# EAGLE library part TEMPLATE_FEATHER_MISC (library voltera_community_lib)
Feather Template (Compatible with Argon)
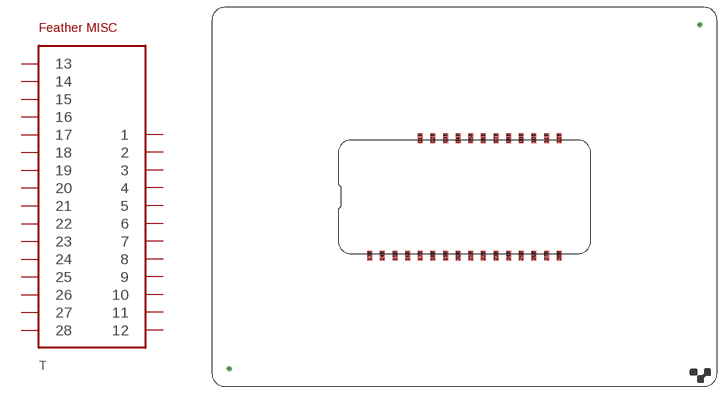
[diagram p10: symbol with the pads of FEATHER; footprint FEATHER]

Designator prefix T

## TEMPLATE_FEATHER_MISC  [FEATHER]
01B  1
01T  1
02B  2
02T  2
03B  3
03T  3
04B  4
04T  4
05B  5
05T  5
06B  6
06T  6
07B  7
07T  7
08B  8
08T  8
09B  9
09T  9
10B  10
10T  10
11B  11
11T  11
12B  12
12T  12
13B  13
13T  13
14B  14
14T  14
15B  15
15T  15
16B  16
16T  16
17B  17
17T  17
18B  18
18T  18
19B  19
19T  19
20B  20
20T  20
21B  21
21T  21
22B  22
22T  22
23B  23
23T  23
24B  24
24T  24
25B  25
25T  25
26B  26
26T  26
27B  27
27T  27
28B  28
28T  28

## Footprint FEATHER (pad centres in mm)
smd 1.016 x 2.032 bottom: 01B 41.91,49.93; 02B 44.45,49.93; 03B 46.99,49.93; 04B 49.53,49.93; 05B 52.07,49.93; 06B 54.61,49.93; 07B 57.15,49.93; 08B 59.69,49.93; 09B 62.23,49.93; 10B 64.77,49.93; 11B 67.31,49.93; 12B 69.85,49.93; 13B 31.75,26.289; 14B 34.29,26.289; 15B 36.83,26.289; 16B 39.37,26.289; 17B 41.91,26.289; 18B 44.45,26.289; 19B 46.99,26.289; 20B 49.53,26.289; 21B 52.07,26.289; 22B 54.61,26.289; 23B 57.15,26.289; 24B 59.69,26.289; 25B 62.23,26.289; 26B 64.77,26.289; 27B 67.31,26.289; 28B 69.85,26.289
smd 1.016 x 2.032: 01T 41.91,49.93; 02T 44.45,49.93; 03T 46.99,49.93; 04T 49.53,49.93; 05T 52.07,49.93; 06T 54.61,49.93; 07T 57.15,49.93; 08T 59.69,49.93; 09T 62.23,49.93; 10T 64.77,49.93; 11T 67.31,49.93; 12T 69.85,49.93; 13T 31.75,26.289; 14T 34.29,26.289; 15T 36.83,26.289; 16T 39.37,26.289; 17T 41.91,26.289; 18T 44.45,26.289; 19T 46.99,26.289; 20T 49.53,26.289; 21T 52.07,26.289; 22T 54.61,26.289; 23T 57.15,26.289; 24T 59.69,26.289; 25T 62.23,26.289; 26T 64.77,26.289; 27T 67.31,26.289; 28T 69.85,26.289
drill 0.3 pad 1: P$1 3.5,3.5; P$2 98.1,72.7